# Altium schematic symbol library ADC.SchLib: 1 symbol
Pins are listed as number, name and electrical type; pins without a type are passive.

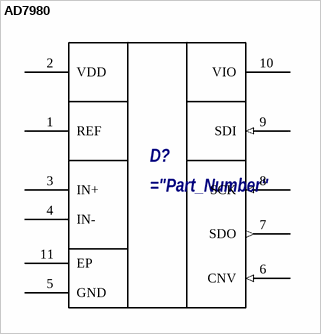
[diagram p0: symbol AD7980]

## AD7980
designator D?
="Description"
pins: 1 REF, 2 VDD, 3 IN+, 4 IN-, 5 GND, 6 CNV (in), 7 SDO (out), 8 SCK (in), 9 SDI (in), 10 VIO, 11 EP